# Altium schematic symbol library Schlib1.SchLib: 19 symbols
Pins are listed as number, name and electrical type; pins without a type are passive.

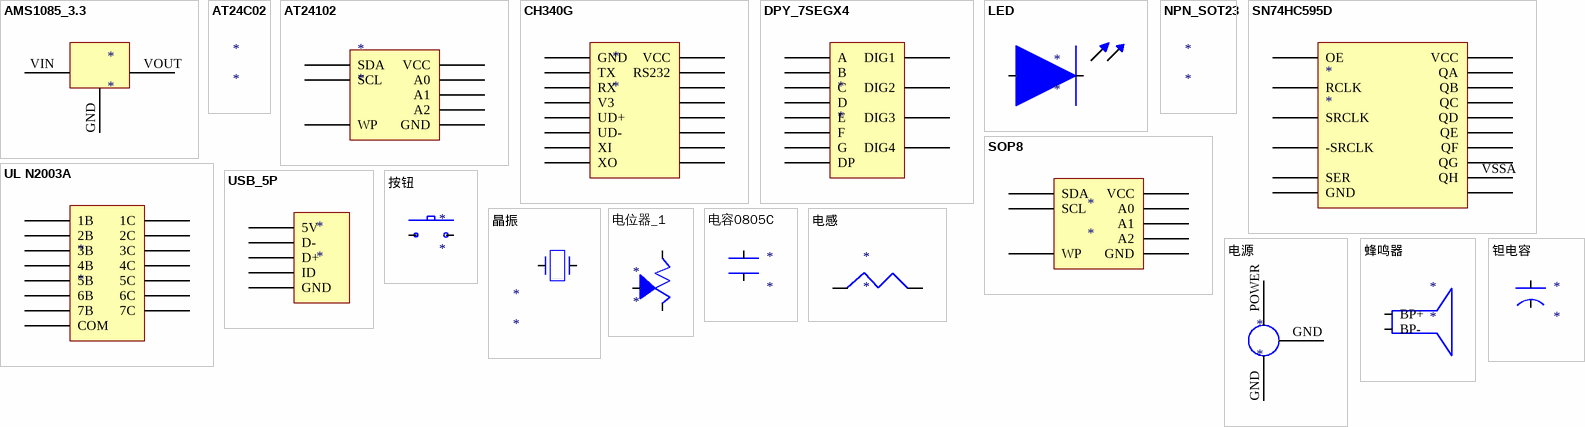
[diagram p0: symbols AMS1085_3.3 to 钽电容]

## AMS1085_3.3
designator *
pins: GND VSSA, VIN VSSA, VOUT VSSA

## AT24C02
designator *

## AT24102
designator *
pins: VSSA SDA, VSSA SCL, VSSA WP, VSSA VCC, VSSA A0, VSSA A1, VSSA A2, VSSA GND

## CH340G
designator *
pins: VSSA GND, VSSA TX, VSSA RX, VSSA V3, VSSA UD+, VSSA UD-, VSSA XI, VSSA XO, VSSA VCC, VSSA RS232, VSSA, VSSA, VSSA, VSSA, VSSA, VSSA

## DPY_7SEGX4
designator *
pins: VSSA A, VSSA B, VSSA C, VSSA D, VSSA E, VSSA F, VSSA G, VSSA DP, VSSA DIG1, VSSA DIG2, VSSA DIG3, VSSA DIG4

## LED
designator *
pins: VSSA, VSSA

## NPN_SOT23
designator *
footprint SOT23 (封装库来自淘宝卖家 ID：黄晶宝石)

## SN74HC595D
designator *
pins: VSSA VCC, VSSA QA, VSSA QB, VSSA QC, VSSA QD, VSSA QE, VSSA QF, VSSA QG, VSSA QH, VSSA, VSSA OE, VSSA RCLK, VSSA SRCLK, VSSA -SRCLK, VSSA SER, VSSA GND

## SOP8
designator *
footprint SOP8 (封装库来自淘宝卖家 ID：黄晶宝石)
pins: VSSA SDA, VSSA SCL, VSSA WP, VSSA VCC, VSSA A0, VSSA A1, VSSA A2, VSSA GND

## UL N2003A
designator *
pins: VSSA 1B, VSSA 2B, VSSA 3B, VSSA 4B, VSSA 5B, VSSA 6B, VSSA 7B, VSSA COM, VSSA 1C, VSSA 2C, VSSA 3C, VSSA 4C, VSSA 5C, VSSA 6C, VSSA 7C

## USB_5P
designator *
pins: 5V, VSSA D-, VSSA D+, VSSA ID, VSSA GND

## 按钮
designator *
pins: VSSA, VSSA

## 晶振
designator *
pins: VSSA, VSSA

## 电位器_1
designator *
pins: VSSA, VSSA, VSSA

## 电容0805C
designator *
pins: VSSA, VSSA

## 电感
designator *
pins: VSSA, VSSA

## 电源
designator *
pins: GND VSSA, GND VSSA, POWER VSSA

## 蜂鸣器
designator *
pins: VSSA BP+, VSSA BP-

## 钽电容
designator *
footprint CM D(6.3*7.7) (贴片电解电容，直径6.3mm，高7.7mm         淘宝ID:黄晶宝石)
pins: VSSA, VSSA